# EAGLE library part 310110020_NE555 (library Seeed-OPL-2017-01-IC-Akita)
TI;NE555, SMD IC Clock;SOIC-8, SKU: 310110020
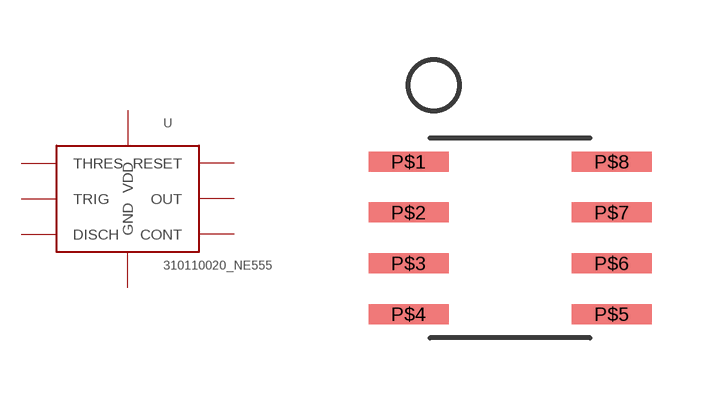
[diagram p12: symbol with the pads of SOIC8; footprint SOIC8]

Designator prefix U

## 310110020_NE555  [SOIC8]
P$1  GND  pwr
P$2  TRIG
P$3  OUT
P$4  RESET
P$5  CONT
P$6  THRES
P$7  DISCH
P$8  VDD  pwr

## Footprint SOIC8 (pad centres in mm)
SOIC8 (1.27mm pitch)
smd 2 x 0.5: P$1 -2.54,1.905; P$2 -2.54,0.635; P$3 -2.54,-0.635; P$4 -2.54,-1.905; P$5 2.54,-1.905; P$6 2.54,-0.635; P$7 2.54,0.635; P$8 2.54,1.905